# Altium footprint library YaoPCB.PCBLIB: 415 footprints (part 8 of 26)
Each footprint in its own frame and in the unit in brackets; x right, y up, seen from the top. Pads: shape width x height; smd on the part's side, far side on the other; paste and mask are expansions set on the pad; w line width, h text height; cw(c..) or ccw(c..) is an arc to the next point about the centre after c.
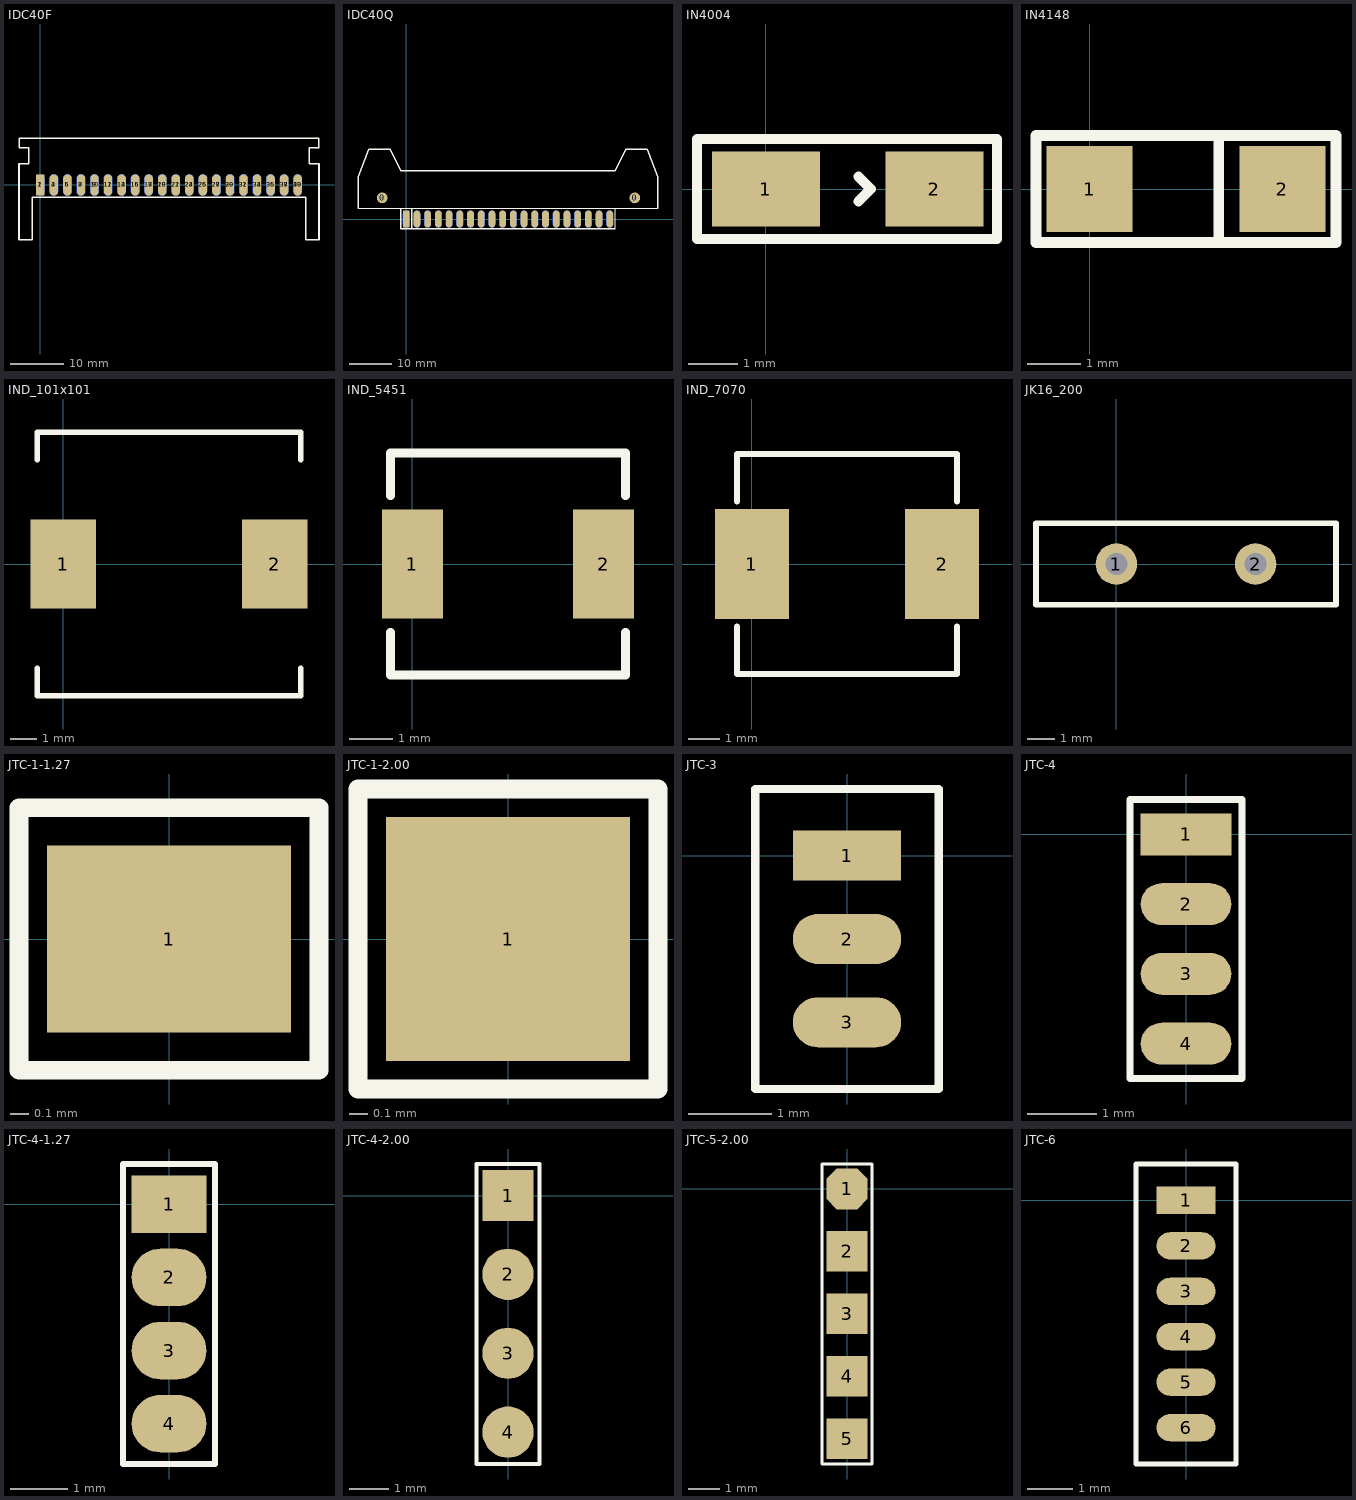
[diagram p7: the footprints below, top view; thin cyan lines are the x and y axes]

## IDC40F [mm]
pads (40):
  rect 1.575x4 smd: 1(0,0)
  oval 1.575x4 smd far side: 2(0,0) 4(2.54,0) 6(5.08,0) 8(7.62,0) 10(10.16,0) 12(12.7,0) 14(15.24,0) 16(17.78,0) 18(20.32,0) 20(22.86,0) 22(25.4,0) 24(27.94,0) 26(30.48,0) 28(33.02,0) 30(35.56,0) 32(38.1,0) 34(40.64,0) 36(43.18,0) 38(45.72,0) 40(48.26,0)
  oval 1.575x4 smd: 3(2.54,0) 5(5.08,0) 7(7.62,0) 9(10.16,0) 11(12.7,0) 13(15.24,0) 15(17.78,0) 17(20.32,0) 19(22.86,0) 21(25.4,0) 23(27.94,0) 25(30.48,0) 27(33.02,0) 29(35.56,0) 31(38.1,0) 33(40.64,0) 35(43.18,0) 37(45.72,0) 39(48.26,0)
TopOverlay:
  lines w0.254: -4,-10.27 -1.52,-10.27 ; -4,3.93 -2.2,3.93 -2.2,6.93 -4,6.93 -4,8.75 52.25,8.75 52.25,6.94 ; -1.52,-2.27 49.74,-2.27 ; -1.5,-10.27 -1.5,-2.27 ; 49.76,-2.27 49.76,-10.27 52.26,-10.27 ; 52.26,3.93 50.46,3.93 50.46,6.93 52.26,6.93
  lines w0.305: -4,-10.27 -4,3.93 ; 52.26,-10.27 52.26,3.93

## IDC40Q [mm]
pads (42):
  round 2.54 hole 0.711: 0(-5.7,5) 0(54.2,5)
  rect 1.575x4 smd: 1(0,0)
  oval 1.575x4 smd far side: 2(0,0) 4(2.54,0) 6(5.08,0) 8(7.62,0) 10(10.16,0) 12(12.7,0) 14(15.24,0) 16(17.78,0) 18(20.32,0) 20(22.86,0) 22(25.4,0) 24(27.94,0) 26(30.48,0) 28(33.02,0) 30(35.56,0) 32(38.1,0) 34(40.64,0) 36(43.18,0) 38(45.72,0) 40(48.26,0)
  oval 1.575x4 smd: 3(2.54,0) 5(5.08,0) 7(7.62,0) 9(10.16,0) 11(12.7,0) 13(15.24,0) 15(17.78,0) 17(20.32,0) 19(22.86,0) 21(25.4,0) 23(27.94,0) 25(30.48,0) 27(33.02,0) 29(35.56,0) 31(38.1,0) 33(40.64,0) 35(43.18,0) 37(45.72,0) 39(48.26,0)
TopOverlay:
  lines w0.254: -11.43,2.5 59.69,2.5 ; 49.53,-2.22 49.53,2.5
  lines w0.305: -11.43,2.5 -11.43,10 -8.89,16.51 -3.81,16.51 -1.27,11.43 49.53,11.43 52.07,16.51 57.15,16.51 59.69,10 59.69,2.5 ; -1.27,2.5 -1.27,-2.27 49.53,-2.28 ; 1.27,-2.27 1.27,2.5

## IN4004 [mil]
pads (2):
  rect 86.61x60 smd: 1(0,0)
  rect 78.74x60 smd: 2(135,0)
TopOverlay:
  lines w7.87: -55.12,-40 -55.12,40 185.04,40 185.04,-40 -55.12,-40
  lines w8: 74,-10 84,0 74,10

## IN4148 [mm]
pads (2):
  rect 1.6x1.6 smd: 1(0,0) 2(3.6,0)
TopOverlay:
  lines w0.2: 2.413,-1 2.413,1 ; -1,-1 -1,1 4.6,1 4.6,-1 -1,-1

## IND_101x101 [mm]
pads (2):
  rect 2.5x3.4 smd: 1(0,0) 2(8.1,0)
TopOverlay:
  lines w0.203: -1,-4 -1,-5.05 9.1,-5.05 9.1,-4 ; -1,4 -1,5.05 9.1,5.05 9.1,4

## IND_5451 [mm]
pads (2):
  rect 1.4x2.5 smd: 1(0,0) 2(4.4,0)
TopOverlay:
  lines w0.203: -0.5,-1.575 -0.5,-2.55 4.9,-2.55 4.9,-1.575 ; -0.5,1.575 -0.5,2.55 4.9,2.55 4.9,1.575

## IND_7070 [mm]
pads (2):
  rect 2.35x3.5 smd: 1(0,0) 2(6.05,0)
TopOverlay:
  lines w0.203: -0.475,-2 -0.475,-3.5 6.525,-3.5 6.525,-2 ; -0.475,2 -0.475,3.5 6.525,3.5 6.525,2

## JK16_200 [mil] "PPTC 2A"
pads (2):
  round 60 hole 31.5: 1(0,0) 2(200.79,0)
TopOverlay:
  lines w7.99: -116.14,-59.06 -116.14,59.06 316.93,59.06 316.93,-59.06 -116.14,-59.06

## JTC-1-1.27 [mm]
pads (1):
  rect 1.3x1 smd: 1(0,0)
TopOverlay:
  lines w0.1: -0.8,-0.7 0.8,-0.7 0.8,0.7 -0.8,0.7 -0.8,-0.7

## JTC-1-2.00 [mm]
pads (1):
  rect 1.3x1.3 smd: 1(0,0)
TopOverlay:
  lines w0.1: -0.8,-0.8 0.8,-0.8 0.8,0.8 -0.8,0.8 -0.8,-0.8

## JTC-3 [mm]
pads (3):
  rect 1.3x0.6 smd: 1(0,0)
  oval 1.3x0.6 smd: 2(0,-1) 3(0,-2)
TopOverlay:
  lines w0.1: -1.1,-2.8 1.1,-2.8 1.1,0.8 -1.1,0.8 -1.1,-2.8

## JTC-4 [mm]
pads (4):
  rect 1.3x0.6 smd: 1(0,0)
  oval 1.3x0.6 smd: 2(0,-1) 3(0,-2) 4(0,-3)
TopOverlay:
  lines w0.1: -0.8,-3.5 -0.8,0.5 0.8,0.5 0.8,-3.5 -0.8,-3.5

## JTC-4-1.27 [mm]
pads (4):
  rect 1.3x1 smd: 1(0,0)
  oval 1.3x1 smd: 2(0,-1.27) 3(0,-2.54) 4(0,-3.81)
TopOverlay:
  lines w0.1: -0.8,-4.51 0.8,-4.51 0.8,0.7 -0.8,0.7 -0.8,-4.51

## JTC-4-2.00 [mm]
pads (4):
  rect 1.3x1.3 smd: 1(0,0)
  round 1.3 smd: 2(0,-2) 3(0,-4) 4(0,-6)
TopOverlay:
  lines w0.1: -0.8,-6.81 0.8,-6.81 0.8,0.8 -0.8,0.8 -0.8,-6.81

## JTC-5-2.00 [mm]
pads (5):
  oct 1.3x1.3 smd: 1(0,0)
  rect 1.3x1.3 smd: 2(0,-2) 3(0,-4) 4(0,-6) 5(0,-8)
TopOverlay:
  lines w0.1: -0.8,-8.81 -0.8,0.8 0.8,0.8 0.8,-8.81 -0.8,-8.81

## JTC-6 [mm]
pads (6):
  rect 1.3x0.6 smd: 1(0,0)
  oval 1.3x0.6 smd: 2(0,-1) 3(0,-2) 4(0,-3) 5(0,-4) 6(0,-5)
TopOverlay:
  lines w0.1: -1.1,-5.8 1.1,-5.8 1.1,0.8 -1.1,0.8 -1.1,-5.8